# EAGLE library part PTN78060X (library IIT_BOMBAY_Racing)
3 A Wide-input Adjustable Switching Regulator
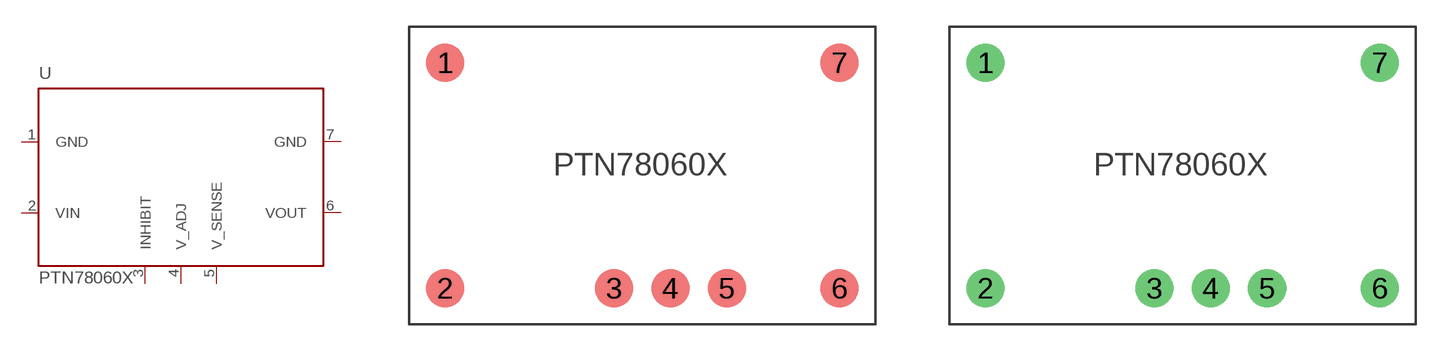
[diagram p23: symbol with the pads of PTN78060X_SMD; footprints PTN78060X_SMD, PTN78060X_TH]

Designator prefix -

## PTN78060XSMD  [PTN78060X_SMD]
1  GND
2  VIN
3  INHIBIT
4  V_ADJ
5  V_SENSE
6  VOUT
7  GND

## PTN78060XTH  [PTN78060X_TH]
Pads as for PTN78060X_SMD

## Footprint PTN78060X_SMD (pad centres in mm)
smd 2.159 x 2.159: 1 -11.176,6.35; 2 -11.176,-6.35; 3 -1.651,-6.35; 4 1.524,-6.35; 5 4.699,-6.35; 6 11.049,-6.35; 7 11.049,6.35

## Footprint PTN78060X_TH (pad centres in mm)
drill 1.397 pad 2.159: 1 -11.176,6.35; 2 -11.176,-6.35; 3 -1.651,-6.35; 4 1.524,-6.35; 5 4.699,-6.35; 6 11.049,-6.35; 7 11.049,6.35